# Altium footprint library BGA_Sq_100P.PcbLib: 114 footprints (part 12 of 31)
Each footprint in its own frame and in the unit in brackets; x right, y up, seen from the top. Pads: shape width x height; smd on the part's side, far side on the other; paste and mask are expansions set on the pad; w line width, h text height; cw(c..) or ccw(c..) is an arc to the next point about the centre after c.
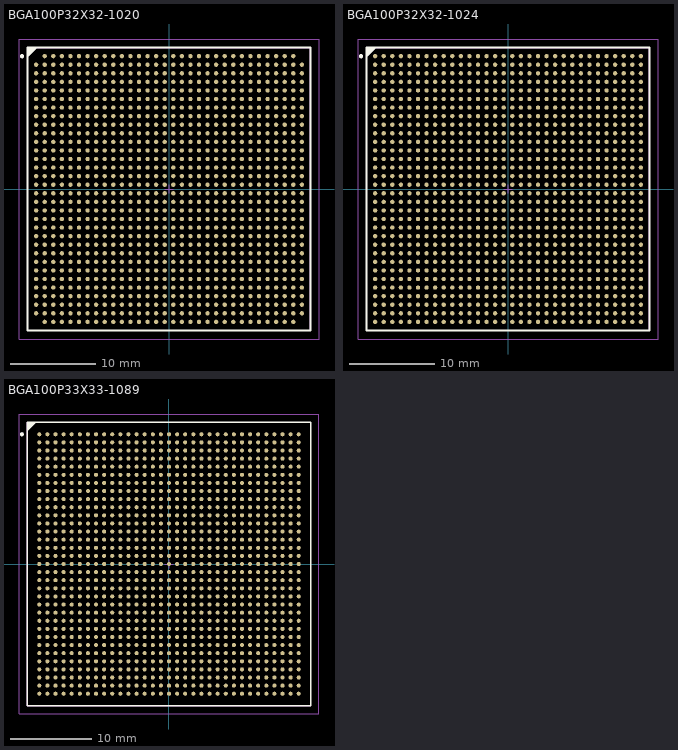
[diagram p11: the footprints below, top view; thin cyan lines are the x and y axes]

## BGA100P32X32-1020 [mm] "BGA, 1020-Leads, Body 33x33mm, Pitch 1mm"
height 3.5
pads (1020):
  round 0.5 smd: A2(-14.5,15.5) A3(-13.5,15.5) A4(-12.5,15.5) A5(-11.5,15.5) A6(-10.5,15.5) A7(-9.5,15.5) A8(-8.5,15.5) A9(-7.5,15.5) A10(-6.5,15.5) A11(-5.5,15.5) A12(-4.5,15.5) A13(-3.5,15.5) A14(-2.5,15.5) A15(-1.5,15.5) A16(-0.5,15.5) A17(0.5,15.5) A18(1.5,15.5) A19(2.5,15.5) A20(3.5,15.5) A21(4.5,15.5) A22(5.5,15.5) A23(6.5,15.5) A24(7.5,15.5) A25(8.5,15.5) A26(9.5,15.5) A27(10.5,15.5) A28(11.5,15.5) A29(12.5,15.5) A30(13.5,15.5) A31(14.5,15.5) AA1(-15.5,-4.5) AA2(-14.5,-4.5) AA3(-13.5,-4.5) AA4(-12.5,-4.5) AA5(-11.5,-4.5) AA6(-10.5,-4.5) AA7(-9.5,-4.5) AA8(-8.5,-4.5) AA9(-7.5,-4.5) AA10(-6.5,-4.5) AA11(-5.5,-4.5) AA12(-4.5,-4.5) AA13(-3.5,-4.5) AA14(-2.5,-4.5) AA15(-1.5,-4.5) AA16(-0.5,-4.5) AA17(0.5,-4.5) AA18(1.5,-4.5) AA19(2.5,-4.5) AA20(3.5,-4.5) AA21(4.5,-4.5) AA22(5.5,-4.5) AA23(6.5,-4.5) AA24(7.5,-4.5) AA25(8.5,-4.5) AA26(9.5,-4.5) AA27(10.5,-4.5) AA28(11.5,-4.5) AA29(12.5,-4.5) AA30(13.5,-4.5) AA31(14.5,-4.5) AA32(15.5,-4.5) AB1(-15.5,-5.5) AB2(-14.5,-5.5) AB3(-13.5,-5.5) AB4(-12.5,-5.5) AB5(-11.5,-5.5) AB6(-10.5,-5.5) AB7(-9.5,-5.5) AB8(-8.5,-5.5) AB9(-7.5,-5.5) AB10(-6.5,-5.5) AB11(-5.5,-5.5) AB12(-4.5,-5.5) AB13(-3.5,-5.5) AB14(-2.5,-5.5) AB15(-1.5,-5.5) AB16(-0.5,-5.5) AB17(0.5,-5.5) AB18(1.5,-5.5) AB19(2.5,-5.5) AB20(3.5,-5.5) AB21(4.5,-5.5) AB22(5.5,-5.5) AB23(6.5,-5.5) AB24(7.5,-5.5) AB25(8.5,-5.5) AB26(9.5,-5.5) AB27(10.5,-5.5) AB28(11.5,-5.5) AB29(12.5,-5.5) AB30(13.5,-5.5) AB31(14.5,-5.5) AB32(15.5,-5.5) AC1(-15.5,-6.5) AC2(-14.5,-6.5) AC3(-13.5,-6.5) AC4(-12.5,-6.5) AC5(-11.5,-6.5) AC6(-10.5,-6.5) AC7(-9.5,-6.5) AC8(-8.5,-6.5) AC9(-7.5,-6.5) AC10(-6.5,-6.5) AC11(-5.5,-6.5) AC12(-4.5,-6.5) AC13(-3.5,-6.5) AC14(-2.5,-6.5) AC15(-1.5,-6.5) AC16(-0.5,-6.5) AC17(0.5,-6.5) AC18(1.5,-6.5) AC19(2.5,-6.5) AC20(3.5,-6.5) AC21(4.5,-6.5) AC22(5.5,-6.5) AC23(6.5,-6.5) AC24(7.5,-6.5) AC25(8.5,-6.5) AC26(9.5,-6.5) AC27(10.5,-6.5) AC28(11.5,-6.5) AC29(12.5,-6.5) AC30(13.5,-6.5) AC31(14.5,-6.5) AC32(15.5,-6.5) AD1(-15.5,-7.5) AD2(-14.5,-7.5) AD3(-13.5,-7.5) AD4(-12.5,-7.5) AD5(-11.5,-7.5) AD6(-10.5,-7.5) AD7(-9.5,-7.5) AD8(-8.5,-7.5) AD9(-7.5,-7.5) AD10(-6.5,-7.5) AD11(-5.5,-7.5) AD12(-4.5,-7.5) AD13(-3.5,-7.5) AD14(-2.5,-7.5) AD15(-1.5,-7.5) AD16(-0.5,-7.5) AD17(0.5,-7.5) AD18(1.5,-7.5) AD19(2.5,-7.5) AD20(3.5,-7.5) AD21(4.5,-7.5) AD22(5.5,-7.5) AD23(6.5,-7.5) AD24(7.5,-7.5) AD25(8.5,-7.5) AD26(9.5,-7.5) AD27(10.5,-7.5) AD28(11.5,-7.5) AD29(12.5,-7.5) AD30(13.5,-7.5) AD31(14.5,-7.5) AD32(15.5,-7.5) AE1(-15.5,-8.5) AE2(-14.5,-8.5) AE3(-13.5,-8.5) AE4(-12.5,-8.5) AE5(-11.5,-8.5) AE6(-10.5,-8.5) AE7(-9.5,-8.5) AE8(-8.5,-8.5) AE9(-7.5,-8.5) AE10(-6.5,-8.5) AE11(-5.5,-8.5) AE12(-4.5,-8.5) AE13(-3.5,-8.5) AE14(-2.5,-8.5) AE15(-1.5,-8.5) AE16(-0.5,-8.5) AE17(0.5,-8.5) AE18(1.5,-8.5) AE19(2.5,-8.5) AE20(3.5,-8.5) AE21(4.5,-8.5) AE22(5.5,-8.5) AE23(6.5,-8.5) AE24(7.5,-8.5) AE25(8.5,-8.5) AE26(9.5,-8.5) AE27(10.5,-8.5) AE28(11.5,-8.5) AE29(12.5,-8.5) AE30(13.5,-8.5) AE31(14.5,-8.5) AE32(15.5,-8.5) AF1(-15.5,-9.5) AF2(-14.5,-9.5) AF3(-13.5,-9.5) AF4(-12.5,-9.5) AF5(-11.5,-9.5) AF6(-10.5,-9.5) AF7(-9.5,-9.5) AF8(-8.5,-9.5) AF9(-7.5,-9.5) AF10(-6.5,-9.5) AF11(-5.5,-9.5) AF12(-4.5,-9.5) AF13(-3.5,-9.5) AF14(-2.5,-9.5) AF15(-1.5,-9.5) AF16(-0.5,-9.5) AF17(0.5,-9.5) AF18(1.5,-9.5) AF19(2.5,-9.5) AF20(3.5,-9.5) AF21(4.5,-9.5) AF22(5.5,-9.5) AF23(6.5,-9.5) AF24(7.5,-9.5) AF25(8.5,-9.5) AF26(9.5,-9.5) AF27(10.5,-9.5) AF28(11.5,-9.5) AF29(12.5,-9.5) AF30(13.5,-9.5) AF31(14.5,-9.5) AF32(15.5,-9.5) AG1(-15.5,-10.5) AG2(-14.5,-10.5) AG3(-13.5,-10.5) AG4(-12.5,-10.5) AG5(-11.5,-10.5) AG6(-10.5,-10.5) AG7(-9.5,-10.5) AG8(-8.5,-10.5) AG9(-7.5,-10.5) AG10(-6.5,-10.5) AG11(-5.5,-10.5) AG12(-4.5,-10.5) AG13(-3.5,-10.5) AG14(-2.5,-10.5) AG15(-1.5,-10.5) AG16(-0.5,-10.5) AG17(0.5,-10.5) AG18(1.5,-10.5) AG19(2.5,-10.5) AG20(3.5,-10.5) AG21(4.5,-10.5) AG22(5.5,-10.5) AG23(6.5,-10.5) AG24(7.5,-10.5) AG25(8.5,-10.5) AG26(9.5,-10.5) AG27(10.5,-10.5) AG28(11.5,-10.5) AG29(12.5,-10.5) AG30(13.5,-10.5) AG31(14.5,-10.5) AG32(15.5,-10.5) AH1(-15.5,-11.5) AH2(-14.5,-11.5) AH3(-13.5,-11.5) AH4(-12.5,-11.5) AH5(-11.5,-11.5) AH6(-10.5,-11.5) AH7(-9.5,-11.5) AH8(-8.5,-11.5) AH9(-7.5,-11.5) AH10(-6.5,-11.5) AH11(-5.5,-11.5) AH12(-4.5,-11.5) AH13(-3.5,-11.5) AH14(-2.5,-11.5) AH15(-1.5,-11.5) AH16(-0.5,-11.5) AH17(0.5,-11.5) AH18(1.5,-11.5) AH19(2.5,-11.5) AH20(3.5,-11.5) AH21(4.5,-11.5) AH22(5.5,-11.5) AH23(6.5,-11.5) AH24(7.5,-11.5) AH25(8.5,-11.5) AH26(9.5,-11.5) AH27(10.5,-11.5) AH28(11.5,-11.5) AH29(12.5,-11.5) AH30(13.5,-11.5) AH31(14.5,-11.5) AH32(15.5,-11.5) AJ1(-15.5,-12.5) AJ2(-14.5,-12.5) AJ3(-13.5,-12.5) AJ4(-12.5,-12.5) AJ5(-11.5,-12.5) AJ6(-10.5,-12.5) AJ7(-9.5,-12.5) AJ8(-8.5,-12.5) AJ9(-7.5,-12.5) AJ10(-6.5,-12.5) AJ11(-5.5,-12.5) AJ12(-4.5,-12.5) AJ13(-3.5,-12.5) AJ14(-2.5,-12.5) AJ15(-1.5,-12.5) AJ16(-0.5,-12.5) AJ17(0.5,-12.5) AJ18(1.5,-12.5) AJ19(2.5,-12.5) AJ20(3.5,-12.5) AJ21(4.5,-12.5) AJ22(5.5,-12.5) AJ23(6.5,-12.5) AJ24(7.5,-12.5) AJ25(8.5,-12.5) AJ26(9.5,-12.5) AJ27(10.5,-12.5) AJ28(11.5,-12.5) AJ29(12.5,-12.5) AJ30(13.5,-12.5) AJ31(14.5,-12.5) AJ32(15.5,-12.5) AK1(-15.5,-13.5) AK2(-14.5,-13.5) AK3(-13.5,-13.5) AK4(-12.5,-13.5) AK5(-11.5,-13.5) AK6(-10.5,-13.5) AK7(-9.5,-13.5) AK8(-8.5,-13.5) AK9(-7.5,-13.5) AK10(-6.5,-13.5) AK11(-5.5,-13.5) AK12(-4.5,-13.5) AK13(-3.5,-13.5) AK14(-2.5,-13.5) AK15(-1.5,-13.5) AK16(-0.5,-13.5) AK17(0.5,-13.5) AK18(1.5,-13.5) AK19(2.5,-13.5) AK20(3.5,-13.5) AK21(4.5,-13.5) AK22(5.5,-13.5) AK23(6.5,-13.5) AK24(7.5,-13.5) AK25(8.5,-13.5) AK26(9.5,-13.5) AK27(10.5,-13.5) AK28(11.5,-13.5) AK29(12.5,-13.5) AK30(13.5,-13.5) AK31(14.5,-13.5) AK32(15.5,-13.5) AL1(-15.5,-14.5) AL2(-14.5,-14.5) AL3(-13.5,-14.5) AL4(-12.5,-14.5) AL5(-11.5,-14.5) AL6(-10.5,-14.5) AL7(-9.5,-14.5) AL8(-8.5,-14.5) AL9(-7.5,-14.5) AL10(-6.5,-14.5) AL11(-5.5,-14.5) AL12(-4.5,-14.5) AL13(-3.5,-14.5) AL14(-2.5,-14.5) AL15(-1.5,-14.5) AL16(-0.5,-14.5) AL17(0.5,-14.5) AL18(1.5,-14.5) AL19(2.5,-14.5) AL20(3.5,-14.5) AL21(4.5,-14.5) AL22(5.5,-14.5) AL23(6.5,-14.5) AL24(7.5,-14.5) AL25(8.5,-14.5) AL26(9.5,-14.5) AL27(10.5,-14.5) AL28(11.5,-14.5) AL29(12.5,-14.5) AL30(13.5,-14.5) AL31(14.5,-14.5) AL32(15.5,-14.5) AM2(-14.5,-15.5) AM3(-13.5,-15.5) AM4(-12.5,-15.5) AM5(-11.5,-15.5) AM6(-10.5,-15.5) AM7(-9.5,-15.5) AM8(-8.5,-15.5) AM9(-7.5,-15.5) AM10(-6.5,-15.5) AM11(-5.5,-15.5) AM12(-4.5,-15.5) AM13(-3.5,-15.5) AM14(-2.5,-15.5) AM15(-1.5,-15.5) AM16(-0.5,-15.5) AM17(0.5,-15.5) AM18(1.5,-15.5) AM19(2.5,-15.5) AM20(3.5,-15.5) AM21(4.5,-15.5) AM22(5.5,-15.5) AM23(6.5,-15.5) AM24(7.5,-15.5) AM25(8.5,-15.5) AM26(9.5,-15.5) AM27(10.5,-15.5) AM28(11.5,-15.5) AM29(12.5,-15.5) AM30(13.5,-15.5) AM31(14.5,-15.5) B1(-15.5,14.5) B2(-14.5,14.5) B3(-13.5,14.5) B4(-12.5,14.5) B5(-11.5,14.5) B6(-10.5,14.5) B7(-9.5,14.5) B8(-8.5,14.5) B9(-7.5,14.5) B10(-6.5,14.5) B11(-5.5,14.5) B12(-4.5,14.5) B13(-3.5,14.5) B14(-2.5,14.5) B15(-1.5,14.5) B16(-0.5,14.5) B17(0.5,14.5) B18(1.5,14.5) B19(2.5,14.5) B20(3.5,14.5) B21(4.5,14.5) B22(5.5,14.5) B23(6.5,14.5) B24(7.5,14.5) B25(8.5,14.5) B26(9.5,14.5) B27(10.5,14.5) B28(11.5,14.5) B29(12.5,14.5) B30(13.5,14.5) B31(14.5,14.5) B32(15.5,14.5) C1(-15.5,13.5) C2(-14.5,13.5) C3(-13.5,13.5) C4(-12.5,13.5) C5(-11.5,13.5) C6(-10.5,13.5) C7(-9.5,13.5) C8(-8.5,13.5) C9(-7.5,13.5) C10(-6.5,13.5) C11(-5.5,13.5) C12(-4.5,13.5) C13(-3.5,13.5) C14(-2.5,13.5) C15(-1.5,13.5) C16(-0.5,13.5) C17(0.5,13.5) C18(1.5,13.5) C19(2.5,13.5) C20(3.5,13.5) C21(4.5,13.5) C22(5.5,13.5) C23(6.5,13.5) C24(7.5,13.5) C25(8.5,13.5) C26(9.5,13.5) C27(10.5,13.5) C28(11.5,13.5) C29(12.5,13.5) C30(13.5,13.5) C31(14.5,13.5) C32(15.5,13.5) D1(-15.5,12.5) D2(-14.5,12.5) D3(-13.5,12.5) D4(-12.5,12.5) D5(-11.5,12.5) D6(-10.5,12.5) D7(-9.5,12.5) D8(-8.5,12.5) D9(-7.5,12.5) D10(-6.5,12.5) D11(-5.5,12.5) D12(-4.5,12.5) D13(-3.5,12.5) D14(-2.5,12.5) D15(-1.5,12.5) D16(-0.5,12.5) D17(0.5,12.5) D18(1.5,12.5) D19(2.5,12.5) D20(3.5,12.5) D21(4.5,12.5) D22(5.5,12.5) D23(6.5,12.5) D24(7.5,12.5) D25(8.5,12.5) D26(9.5,12.5) D27(10.5,12.5) D28(11.5,12.5) D29(12.5,12.5) D30(13.5,12.5) D31(14.5,12.5) D32(15.5,12.5) E1(-15.5,11.5) E2(-14.5,11.5) E3(-13.5,11.5) E4(-12.5,11.5) E5(-11.5,11.5) E6(-10.5,11.5) E7(-9.5,11.5) E8(-8.5,11.5) E9(-7.5,11.5) E10(-6.5,11.5) E11(-5.5,11.5) E12(-4.5,11.5) E13(-3.5,11.5) E14(-2.5,11.5) E15(-1.5,11.5) E16(-0.5,11.5) E17(0.5,11.5) E18(1.5,11.5) E19(2.5,11.5) E20(3.5,11.5) E21(4.5,11.5) E22(5.5,11.5) E23(6.5,11.5) E24(7.5,11.5) E25(8.5,11.5) E26(9.5,11.5) E27(10.5,11.5) E28(11.5,11.5) E29(12.5,11.5) E30(13.5,11.5) E31(14.5,11.5) E32(15.5,11.5) F1(-15.5,10.5) F2(-14.5,10.5) F3(-13.5,10.5) F4(-12.5,10.5) F5(-11.5,10.5) F6(-10.5,10.5) F7(-9.5,10.5) F8(-8.5,10.5) F9(-7.5,10.5) F10(-6.5,10.5) F11(-5.5,10.5) F12(-4.5,10.5) F13(-3.5,10.5) F14(-2.5,10.5) F15(-1.5,10.5) F16(-0.5,10.5) F17(0.5,10.5) F18(1.5,10.5) F19(2.5,10.5) F20(3.5,10.5) F21(4.5,10.5) F22(5.5,10.5) F23(6.5,10.5) F24(7.5,10.5) F25(8.5,10.5) F26(9.5,10.5) F27(10.5,10.5) F28(11.5,10.5) F29(12.5,10.5) F30(13.5,10.5) F31(14.5,10.5) F32(15.5,10.5) G1(-15.5,9.5) G2(-14.5,9.5) G3(-13.5,9.5) G4(-12.5,9.5) G5(-11.5,9.5) G6(-10.5,9.5) G7(-9.5,9.5) G8(-8.5,9.5) G9(-7.5,9.5) G10(-6.5,9.5) G11(-5.5,9.5) G12(-4.5,9.5) G13(-3.5,9.5) G14(-2.5,9.5) G15(-1.5,9.5) G16(-0.5,9.5) G17(0.5,9.5) G18(1.5,9.5) G19(2.5,9.5) G20(3.5,9.5) G21(4.5,9.5) G22(5.5,9.5) G23(6.5,9.5) G24(7.5,9.5) G25(8.5,9.5) G26(9.5,9.5) G27(10.5,9.5) G28(11.5,9.5) G29(12.5,9.5) G30(13.5,9.5) G31(14.5,9.5) G32(15.5,9.5) H1(-15.5,8.5) H2(-14.5,8.5) H3(-13.5,8.5) H4(-12.5,8.5) H5(-11.5,8.5) H6(-10.5,8.5) H7(-9.5,8.5) H8(-8.5,8.5) H9(-7.5,8.5) H10(-6.5,8.5) H11(-5.5,8.5) H12(-4.5,8.5) H13(-3.5,8.5) H14(-2.5,8.5) H15(-1.5,8.5) H16(-0.5,8.5) H17(0.5,8.5) H18(1.5,8.5) H19(2.5,8.5) H20(3.5,8.5) H21(4.5,8.5) H22(5.5,8.5) H23(6.5,8.5) H24(7.5,8.5) H25(8.5,8.5) H26(9.5,8.5) H27(10.5,8.5) H28(11.5,8.5) H29(12.5,8.5) H30(13.5,8.5) H31(14.5,8.5) H32(15.5,8.5) J1(-15.5,7.5) J2(-14.5,7.5) J3(-13.5,7.5) J4(-12.5,7.5) J5(-11.5,7.5) J6(-10.5,7.5) J7(-9.5,7.5) J8(-8.5,7.5) J9(-7.5,7.5) J10(-6.5,7.5) J11(-5.5,7.5) J12(-4.5,7.5) J13(-3.5,7.5) J14(-2.5,7.5) J15(-1.5,7.5) J16(-0.5,7.5) J17(0.5,7.5) J18(1.5,7.5) J19(2.5,7.5) J20(3.5,7.5) J21(4.5,7.5) J22(5.5,7.5) J23(6.5,7.5) J24(7.5,7.5) J25(8.5,7.5) J26(9.5,7.5) J27(10.5,7.5) J28(11.5,7.5) J29(12.5,7.5) J30(13.5,7.5) J31(14.5,7.5) J32(15.5,7.5) K1(-15.5,6.5) K2(-14.5,6.5) K3(-13.5,6.5) K4(-12.5,6.5) K5(-11.5,6.5) K6(-10.5,6.5) K7(-9.5,6.5) K8(-8.5,6.5) K9(-7.5,6.5) K10(-6.5,6.5) K11(-5.5,6.5) K12(-4.5,6.5) K13(-3.5,6.5) K14(-2.5,6.5) K15(-1.5,6.5) K16(-0.5,6.5) K17(0.5,6.5) K18(1.5,6.5) K19(2.5,6.5) K20(3.5,6.5) K21(4.5,6.5) K22(5.5,6.5) K23(6.5,6.5) K24(7.5,6.5) K25(8.5,6.5) K26(9.5,6.5) K27(10.5,6.5) K28(11.5,6.5) K29(12.5,6.5) K30(13.5,6.5) K31(14.5,6.5) K32(15.5,6.5) L1(-15.5,5.5) L2(-14.5,5.5) L3(-13.5,5.5) L4(-12.5,5.5) L5(-11.5,5.5) L6(-10.5,5.5) L7(-9.5,5.5) L8(-8.5,5.5) L9(-7.5,5.5) L10(-6.5,5.5) L11(-5.5,5.5) L12(-4.5,5.5) L13(-3.5,5.5) L14(-2.5,5.5) L15(-1.5,5.5) L16(-0.5,5.5) L17(0.5,5.5) L18(1.5,5.5) L19(2.5,5.5) L20(3.5,5.5) L21(4.5,5.5) L22(5.5,5.5) L23(6.5,5.5) L24(7.5,5.5) L25(8.5,5.5) L26(9.5,5.5) L27(10.5,5.5) L28(11.5,5.5) L29(12.5,5.5) L30(13.5,5.5) L31(14.5,5.5) L32(15.5,5.5) M1(-15.5,4.5) M2(-14.5,4.5) M3(-13.5,4.5) M4(-12.5,4.5) M5(-11.5,4.5) M6(-10.5,4.5) M7(-9.5,4.5) M8(-8.5,4.5) M9(-7.5,4.5) M10(-6.5,4.5) M11(-5.5,4.5) M12(-4.5,4.5) M13(-3.5,4.5) M14(-2.5,4.5) M15(-1.5,4.5) M16(-0.5,4.5) M17(0.5,4.5) M18(1.5,4.5) M19(2.5,4.5) M20(3.5,4.5) M21(4.5,4.5) M22(5.5,4.5) M23(6.5,4.5) M24(7.5,4.5) M25(8.5,4.5) M26(9.5,4.5) M27(10.5,4.5) M28(11.5,4.5) M29(12.5,4.5) M30(13.5,4.5) M31(14.5,4.5) M32(15.5,4.5) N1(-15.5,3.5) N2(-14.5,3.5) N3(-13.5,3.5) N4(-12.5,3.5) N5(-11.5,3.5) N6(-10.5,3.5) N7(-9.5,3.5) N8(-8.5,3.5) N9(-7.5,3.5) N10(-6.5,3.5) N11(-5.5,3.5) N12(-4.5,3.5) N13(-3.5,3.5) N14(-2.5,3.5) N15(-1.5,3.5) N16(-0.5,3.5) N17(0.5,3.5) N18(1.5,3.5) N19(2.5,3.5) N20(3.5,3.5) N21(4.5,3.5) N22(5.5,3.5) N23(6.5,3.5) N24(7.5,3.5) N25(8.5,3.5) N26(9.5,3.5) N27(10.5,3.5) N28(11.5,3.5) N29(12.5,3.5) N30(13.5,3.5) N31(14.5,3.5) N32(15.5,3.5) P1(-15.5,2.5) P2(-14.5,2.5) P3(-13.5,2.5) P4(-12.5,2.5) P5(-11.5,2.5) P6(-10.5,2.5) P7(-9.5,2.5) P8(-8.5,2.5) P9(-7.5,2.5) P10(-6.5,2.5) P11(-5.5,2.5) P12(-4.5,2.5) P13(-3.5,2.5) P14(-2.5,2.5) P15(-1.5,2.5) P16(-0.5,2.5) P17(0.5,2.5) P18(1.5,2.5) P19(2.5,2.5) P20(3.5,2.5) P21(4.5,2.5) P22(5.5,2.5) P23(6.5,2.5) P24(7.5,2.5) P25(8.5,2.5) P26(9.5,2.5) P27(10.5,2.5) P28(11.5,2.5) P29(12.5,2.5) P30(13.5,2.5) P31(14.5,2.5) P32(15.5,2.5) R1(-15.5,1.5) R2(-14.5,1.5) R3(-13.5,1.5) R4(-12.5,1.5) R5(-11.5,1.5) R6(-10.5,1.5) R7(-9.5,1.5) R8(-8.5,1.5) R9(-7.5,1.5) R10(-6.5,1.5) R11(-5.5,1.5) R12(-4.5,1.5) R13(-3.5,1.5) R14(-2.5,1.5) R15(-1.5,1.5) R16(-0.5,1.5) R17(0.5,1.5) R18(1.5,1.5) R19(2.5,1.5) R20(3.5,1.5) R21(4.5,1.5) R22(5.5,1.5) R23(6.5,1.5) R24(7.5,1.5) R25(8.5,1.5) R26(9.5,1.5) R27(10.5,1.5) R28(11.5,1.5) R29(12.5,1.5) R30(13.5,1.5) R31(14.5,1.5) R32(15.5,1.5) T1(-15.5,0.5) T2(-14.5,0.5) T3(-13.5,0.5) T4(-12.5,0.5) T5(-11.5,0.5) T6(-10.5,0.5) T7(-9.5,0.5) T8(-8.5,0.5) T9(-7.5,0.5) T10(-6.5,0.5) T11(-5.5,0.5) T12(-4.5,0.5) T13(-3.5,0.5) T14(-2.5,0.5) T15(-1.5,0.5) T16(-0.5,0.5) T17(0.5,0.5) T18(1.5,0.5) T19(2.5,0.5) T20(3.5,0.5) T21(4.5,0.5) T22(5.5,0.5) T23(6.5,0.5) T24(7.5,0.5) T25(8.5,0.5) T26(9.5,0.5) T27(10.5,0.5) T28(11.5,0.5) T29(12.5,0.5) T30(13.5,0.5) T31(14.5,0.5) T32(15.5,0.5) U1(-15.5,-0.5) U2(-14.5,-0.5) U3(-13.5,-0.5) U4(-12.5,-0.5) U5(-11.5,-0.5) U6(-10.5,-0.5) U7(-9.5,-0.5) U8(-8.5,-0.5) U9(-7.5,-0.5) U10(-6.5,-0.5) U11(-5.5,-0.5) U12(-4.5,-0.5) U13(-3.5,-0.5) U14(-2.5,-0.5) U15(-1.5,-0.5) U16(-0.5,-0.5) U17(0.5,-0.5) U18(1.5,-0.5) U19(2.5,-0.5) U20(3.5,-0.5) U21(4.5,-0.5) U22(5.5,-0.5) U23(6.5,-0.5) U24(7.5,-0.5) U25(8.5,-0.5) U26(9.5,-0.5) U27(10.5,-0.5) U28(11.5,-0.5) U29(12.5,-0.5) U30(13.5,-0.5) U31(14.5,-0.5) U32(15.5,-0.5) V1(-15.5,-1.5) V2(-14.5,-1.5) V3(-13.5,-1.5) V4(-12.5,-1.5) V5(-11.5,-1.5) V6(-10.5,-1.5) V7(-9.5,-1.5) V8(-8.5,-1.5) V9(-7.5,-1.5) V10(-6.5,-1.5) V11(-5.5,-1.5) V12(-4.5,-1.5) V13(-3.5,-1.5) V14(-2.5,-1.5) V15(-1.5,-1.5) V16(-0.5,-1.5) V17(0.5,-1.5) V18(1.5,-1.5) V19(2.5,-1.5) V20(3.5,-1.5) V21(4.5,-1.5) V22(5.5,-1.5) V23(6.5,-1.5) V24(7.5,-1.5) V25(8.5,-1.5) V26(9.5,-1.5) V27(10.5,-1.5) V28(11.5,-1.5) V29(12.5,-1.5) V30(13.5,-1.5) V31(14.5,-1.5) V32(15.5,-1.5) W1(-15.5,-2.5) W2(-14.5,-2.5) W3(-13.5,-2.5) W4(-12.5,-2.5) W5(-11.5,-2.5) W6(-10.5,-2.5) W7(-9.5,-2.5) W8(-8.5,-2.5) W9(-7.5,-2.5) W10(-6.5,-2.5) W11(-5.5,-2.5) W12(-4.5,-2.5) W13(-3.5,-2.5) W14(-2.5,-2.5) W15(-1.5,-2.5) W16(-0.5,-2.5) W17(0.5,-2.5) W18(1.5,-2.5) W19(2.5,-2.5) W20(3.5,-2.5) W21(4.5,-2.5) W22(5.5,-2.5) W23(6.5,-2.5) W24(7.5,-2.5) W25(8.5,-2.5) W26(9.5,-2.5) W27(10.5,-2.5) W28(11.5,-2.5) W29(12.5,-2.5) W30(13.5,-2.5) W31(14.5,-2.5) W32(15.5,-2.5) Y1(-15.5,-3.5) Y2(-14.5,-3.5) Y3(-13.5,-3.5) Y4(-12.5,-3.5) Y5(-11.5,-3.5) Y6(-10.5,-3.5) Y7(-9.5,-3.5) Y8(-8.5,-3.5) Y9(-7.5,-3.5) Y10(-6.5,-3.5) Y11(-5.5,-3.5) Y12(-4.5,-3.5) Y13(-3.5,-3.5) Y14(-2.5,-3.5) Y15(-1.5,-3.5) Y16(-0.5,-3.5) Y17(0.5,-3.5) Y18(1.5,-3.5) Y19(2.5,-3.5) Y20(3.5,-3.5) Y21(4.5,-3.5) Y22(5.5,-3.5) Y23(6.5,-3.5) Y24(7.5,-3.5) Y25(8.5,-3.5) Y26(9.5,-3.5) Y27(10.5,-3.5) Y28(11.5,-3.5) Y29(12.5,-3.5) Y30(13.5,-3.5) Y31(14.5,-3.5) Y32(15.5,-3.5)
Top Overlay:
  circle w0.25: c-17.15,15.5 r0.125
  region: -15.5,16.5 -16.5,15.5 -16.5,16.5
  lines w0.2: -16.5,15.5 -15.5,16.5 ; -16.5,-16.5 -16.5,16.5 16.5,16.5 16.5,-16.5 -16.5,-16.5
Mechanical 13:
  lines w0.1: -16.5,-16.5 -16.5,16.5 16.5,16.5 16.5,-16.5 -16.5,-16.5
Mechanical 15:
  lines w0.1: -0.5,0 0.5,0 ; 0,-0.5 0,0.5 ; -17.5,-17.5 -17.5,17.5 17.5,17.5 17.5,-17.5 -17.5,-17.5
3D body: height 0, standoff 0, extent -16.5,-16.5 16.5,16.5

## BGA100P32X32-1024 [mm] "BGA, 1024-Leads, Body 33x33mm, Pitch 1mm"
height 3.5
pads (1024):
  round 0.5 smd: A1(-15.5,15.5) A2(-14.5,15.5) A3(-13.5,15.5) A4(-12.5,15.5) A5(-11.5,15.5) A6(-10.5,15.5) A7(-9.5,15.5) A8(-8.5,15.5) A9(-7.5,15.5) A10(-6.5,15.5) A11(-5.5,15.5) A12(-4.5,15.5) A13(-3.5,15.5) A14(-2.5,15.5) A15(-1.5,15.5) A16(-0.5,15.5) A17(0.5,15.5) A18(1.5,15.5) A19(2.5,15.5) A20(3.5,15.5) A21(4.5,15.5) A22(5.5,15.5) A23(6.5,15.5) A24(7.5,15.5) A25(8.5,15.5) A26(9.5,15.5) A27(10.5,15.5) A28(11.5,15.5) A29(12.5,15.5) A30(13.5,15.5) A31(14.5,15.5) A32(15.5,15.5) AA1(-15.5,-4.5) AA2(-14.5,-4.5) AA3(-13.5,-4.5) AA4(-12.5,-4.5) AA5(-11.5,-4.5) AA6(-10.5,-4.5) AA7(-9.5,-4.5) AA8(-8.5,-4.5) AA9(-7.5,-4.5) AA10(-6.5,-4.5) AA11(-5.5,-4.5) AA12(-4.5,-4.5) AA13(-3.5,-4.5) AA14(-2.5,-4.5) AA15(-1.5,-4.5) AA16(-0.5,-4.5) AA17(0.5,-4.5) AA18(1.5,-4.5) AA19(2.5,-4.5) AA20(3.5,-4.5) AA21(4.5,-4.5) AA22(5.5,-4.5) AA23(6.5,-4.5) AA24(7.5,-4.5) AA25(8.5,-4.5) AA26(9.5,-4.5) AA27(10.5,-4.5) AA28(11.5,-4.5) AA29(12.5,-4.5) AA30(13.5,-4.5) AA31(14.5,-4.5) AA32(15.5,-4.5) AB1(-15.5,-5.5) AB2(-14.5,-5.5) AB3(-13.5,-5.5) AB4(-12.5,-5.5) AB5(-11.5,-5.5) AB6(-10.5,-5.5) AB7(-9.5,-5.5) AB8(-8.5,-5.5) AB9(-7.5,-5.5) AB10(-6.5,-5.5) AB11(-5.5,-5.5) AB12(-4.5,-5.5) AB13(-3.5,-5.5) AB14(-2.5,-5.5) AB15(-1.5,-5.5) AB16(-0.5,-5.5) AB17(0.5,-5.5) AB18(1.5,-5.5) AB19(2.5,-5.5) AB20(3.5,-5.5) AB21(4.5,-5.5) AB22(5.5,-5.5) AB23(6.5,-5.5) AB24(7.5,-5.5) AB25(8.5,-5.5) AB26(9.5,-5.5) AB27(10.5,-5.5) AB28(11.5,-5.5) AB29(12.5,-5.5) AB30(13.5,-5.5) AB31(14.5,-5.5) AB32(15.5,-5.5) AC1(-15.5,-6.5) AC2(-14.5,-6.5) AC3(-13.5,-6.5) AC4(-12.5,-6.5) AC5(-11.5,-6.5) AC6(-10.5,-6.5) AC7(-9.5,-6.5) AC8(-8.5,-6.5) AC9(-7.5,-6.5) AC10(-6.5,-6.5) AC11(-5.5,-6.5) AC12(-4.5,-6.5) AC13(-3.5,-6.5) AC14(-2.5,-6.5) AC15(-1.5,-6.5) AC16(-0.5,-6.5) AC17(0.5,-6.5) AC18(1.5,-6.5) AC19(2.5,-6.5) AC20(3.5,-6.5) AC21(4.5,-6.5) AC22(5.5,-6.5) AC23(6.5,-6.5) AC24(7.5,-6.5) AC25(8.5,-6.5) AC26(9.5,-6.5) AC27(10.5,-6.5) AC28(11.5,-6.5) AC29(12.5,-6.5) AC30(13.5,-6.5) AC31(14.5,-6.5) AC32(15.5,-6.5) AD1(-15.5,-7.5) AD2(-14.5,-7.5) AD3(-13.5,-7.5) AD4(-12.5,-7.5) AD5(-11.5,-7.5) AD6(-10.5,-7.5) AD7(-9.5,-7.5) AD8(-8.5,-7.5) AD9(-7.5,-7.5) AD10(-6.5,-7.5) AD11(-5.5,-7.5) AD12(-4.5,-7.5) AD13(-3.5,-7.5) AD14(-2.5,-7.5) AD15(-1.5,-7.5) AD16(-0.5,-7.5) AD17(0.5,-7.5) AD18(1.5,-7.5) AD19(2.5,-7.5) AD20(3.5,-7.5) AD21(4.5,-7.5) AD22(5.5,-7.5) AD23(6.5,-7.5) AD24(7.5,-7.5) AD25(8.5,-7.5) AD26(9.5,-7.5) AD27(10.5,-7.5) AD28(11.5,-7.5) AD29(12.5,-7.5) AD30(13.5,-7.5) AD31(14.5,-7.5) AD32(15.5,-7.5) AE1(-15.5,-8.5) AE2(-14.5,-8.5) AE3(-13.5,-8.5) AE4(-12.5,-8.5) AE5(-11.5,-8.5) AE6(-10.5,-8.5) AE7(-9.5,-8.5) AE8(-8.5,-8.5) AE9(-7.5,-8.5) AE10(-6.5,-8.5) AE11(-5.5,-8.5) AE12(-4.5,-8.5) AE13(-3.5,-8.5) AE14(-2.5,-8.5) AE15(-1.5,-8.5) AE16(-0.5,-8.5) AE17(0.5,-8.5) AE18(1.5,-8.5) AE19(2.5,-8.5) AE20(3.5,-8.5) AE21(4.5,-8.5) AE22(5.5,-8.5) AE23(6.5,-8.5) AE24(7.5,-8.5) AE25(8.5,-8.5) AE26(9.5,-8.5) AE27(10.5,-8.5) AE28(11.5,-8.5) AE29(12.5,-8.5) AE30(13.5,-8.5) AE31(14.5,-8.5) AE32(15.5,-8.5) AF1(-15.5,-9.5) AF2(-14.5,-9.5) AF3(-13.5,-9.5) AF4(-12.5,-9.5) AF5(-11.5,-9.5) AF6(-10.5,-9.5) AF7(-9.5,-9.5) AF8(-8.5,-9.5) AF9(-7.5,-9.5) AF10(-6.5,-9.5) AF11(-5.5,-9.5) AF12(-4.5,-9.5) AF13(-3.5,-9.5) AF14(-2.5,-9.5) AF15(-1.5,-9.5) AF16(-0.5,-9.5) AF17(0.5,-9.5) AF18(1.5,-9.5) AF19(2.5,-9.5) AF20(3.5,-9.5) AF21(4.5,-9.5) AF22(5.5,-9.5) AF23(6.5,-9.5) AF24(7.5,-9.5) AF25(8.5,-9.5) AF26(9.5,-9.5) AF27(10.5,-9.5) AF28(11.5,-9.5) AF29(12.5,-9.5) AF30(13.5,-9.5) AF31(14.5,-9.5) AF32(15.5,-9.5) AG1(-15.5,-10.5) AG2(-14.5,-10.5) AG3(-13.5,-10.5) AG4(-12.5,-10.5) AG5(-11.5,-10.5) AG6(-10.5,-10.5) AG7(-9.5,-10.5) AG8(-8.5,-10.5) AG9(-7.5,-10.5) AG10(-6.5,-10.5) AG11(-5.5,-10.5) AG12(-4.5,-10.5) AG13(-3.5,-10.5) AG14(-2.5,-10.5) AG15(-1.5,-10.5) AG16(-0.5,-10.5) AG17(0.5,-10.5) AG18(1.5,-10.5) AG19(2.5,-10.5) AG20(3.5,-10.5) AG21(4.5,-10.5) AG22(5.5,-10.5) AG23(6.5,-10.5) AG24(7.5,-10.5) AG25(8.5,-10.5) AG26(9.5,-10.5) AG27(10.5,-10.5) AG28(11.5,-10.5) AG29(12.5,-10.5) AG30(13.5,-10.5) AG31(14.5,-10.5) AG32(15.5,-10.5) AH1(-15.5,-11.5) AH2(-14.5,-11.5) AH3(-13.5,-11.5) AH4(-12.5,-11.5) AH5(-11.5,-11.5) AH6(-10.5,-11.5) AH7(-9.5,-11.5) AH8(-8.5,-11.5) AH9(-7.5,-11.5) AH10(-6.5,-11.5) AH11(-5.5,-11.5) AH12(-4.5,-11.5) AH13(-3.5,-11.5) AH14(-2.5,-11.5) AH15(-1.5,-11.5) AH16(-0.5,-11.5) AH17(0.5,-11.5) AH18(1.5,-11.5) AH19(2.5,-11.5) AH20(3.5,-11.5) AH21(4.5,-11.5) AH22(5.5,-11.5) AH23(6.5,-11.5) AH24(7.5,-11.5) AH25(8.5,-11.5) AH26(9.5,-11.5) AH27(10.5,-11.5) AH28(11.5,-11.5) AH29(12.5,-11.5) AH30(13.5,-11.5) AH31(14.5,-11.5) AH32(15.5,-11.5) AJ1(-15.5,-12.5) AJ2(-14.5,-12.5) AJ3(-13.5,-12.5) AJ4(-12.5,-12.5) AJ5(-11.5,-12.5) AJ6(-10.5,-12.5) AJ7(-9.5,-12.5) AJ8(-8.5,-12.5) AJ9(-7.5,-12.5) AJ10(-6.5,-12.5) AJ11(-5.5,-12.5) AJ12(-4.5,-12.5) AJ13(-3.5,-12.5) AJ14(-2.5,-12.5) AJ15(-1.5,-12.5) AJ16(-0.5,-12.5) AJ17(0.5,-12.5) AJ18(1.5,-12.5) AJ19(2.5,-12.5) AJ20(3.5,-12.5) AJ21(4.5,-12.5) AJ22(5.5,-12.5) AJ23(6.5,-12.5) AJ24(7.5,-12.5) AJ25(8.5,-12.5) AJ26(9.5,-12.5) AJ27(10.5,-12.5) AJ28(11.5,-12.5) AJ29(12.5,-12.5) AJ30(13.5,-12.5) AJ31(14.5,-12.5) AJ32(15.5,-12.5) AK1(-15.5,-13.5) AK2(-14.5,-13.5) AK3(-13.5,-13.5) AK4(-12.5,-13.5) AK5(-11.5,-13.5) AK6(-10.5,-13.5) AK7(-9.5,-13.5) AK8(-8.5,-13.5) AK9(-7.5,-13.5) AK10(-6.5,-13.5) AK11(-5.5,-13.5) AK12(-4.5,-13.5) AK13(-3.5,-13.5) AK14(-2.5,-13.5) AK15(-1.5,-13.5) AK16(-0.5,-13.5) AK17(0.5,-13.5) AK18(1.5,-13.5) AK19(2.5,-13.5) AK20(3.5,-13.5) AK21(4.5,-13.5) AK22(5.5,-13.5) AK23(6.5,-13.5) AK24(7.5,-13.5) AK25(8.5,-13.5) AK26(9.5,-13.5) AK27(10.5,-13.5) AK28(11.5,-13.5) AK29(12.5,-13.5) AK30(13.5,-13.5) AK31(14.5,-13.5) AK32(15.5,-13.5) AL1(-15.5,-14.5) AL2(-14.5,-14.5) AL3(-13.5,-14.5) AL4(-12.5,-14.5) AL5(-11.5,-14.5) AL6(-10.5,-14.5) AL7(-9.5,-14.5) AL8(-8.5,-14.5) AL9(-7.5,-14.5) AL10(-6.5,-14.5) AL11(-5.5,-14.5) AL12(-4.5,-14.5) AL13(-3.5,-14.5) AL14(-2.5,-14.5) AL15(-1.5,-14.5) AL16(-0.5,-14.5) AL17(0.5,-14.5) AL18(1.5,-14.5) AL19(2.5,-14.5) AL20(3.5,-14.5) AL21(4.5,-14.5) AL22(5.5,-14.5) AL23(6.5,-14.5) AL24(7.5,-14.5) AL25(8.5,-14.5) AL26(9.5,-14.5) AL27(10.5,-14.5) AL28(11.5,-14.5) AL29(12.5,-14.5) AL30(13.5,-14.5) AL31(14.5,-14.5) AL32(15.5,-14.5) AM1(-15.5,-15.5) AM2(-14.5,-15.5) AM3(-13.5,-15.5) AM4(-12.5,-15.5) AM5(-11.5,-15.5) AM6(-10.5,-15.5) AM7(-9.5,-15.5) AM8(-8.5,-15.5) AM9(-7.5,-15.5) AM10(-6.5,-15.5) AM11(-5.5,-15.5) AM12(-4.5,-15.5) AM13(-3.5,-15.5) AM14(-2.5,-15.5) AM15(-1.5,-15.5) AM16(-0.5,-15.5) AM17(0.5,-15.5) AM18(1.5,-15.5) AM19(2.5,-15.5) AM20(3.5,-15.5) AM21(4.5,-15.5) AM22(5.5,-15.5) AM23(6.5,-15.5) AM24(7.5,-15.5) AM25(8.5,-15.5) AM26(9.5,-15.5) AM27(10.5,-15.5) AM28(11.5,-15.5) AM29(12.5,-15.5) AM30(13.5,-15.5) AM31(14.5,-15.5) AM32(15.5,-15.5) B1(-15.5,14.5) B2(-14.5,14.5) B3(-13.5,14.5) B4(-12.5,14.5) B5(-11.5,14.5) B6(-10.5,14.5) B7(-9.5,14.5) B8(-8.5,14.5) B9(-7.5,14.5) B10(-6.5,14.5) B11(-5.5,14.5) B12(-4.5,14.5) B13(-3.5,14.5) B14(-2.5,14.5) B15(-1.5,14.5) B16(-0.5,14.5) B17(0.5,14.5) B18(1.5,14.5) B19(2.5,14.5) B20(3.5,14.5) B21(4.5,14.5) B22(5.5,14.5) B23(6.5,14.5) B24(7.5,14.5) B25(8.5,14.5) B26(9.5,14.5) B27(10.5,14.5) B28(11.5,14.5) B29(12.5,14.5) B30(13.5,14.5) B31(14.5,14.5) B32(15.5,14.5) C1(-15.5,13.5) C2(-14.5,13.5) C3(-13.5,13.5) C4(-12.5,13.5) C5(-11.5,13.5) C6(-10.5,13.5) C7(-9.5,13.5) C8(-8.5,13.5) C9(-7.5,13.5) C10(-6.5,13.5) C11(-5.5,13.5) C12(-4.5,13.5) C13(-3.5,13.5) C14(-2.5,13.5) C15(-1.5,13.5) C16(-0.5,13.5) C17(0.5,13.5) C18(1.5,13.5) C19(2.5,13.5) C20(3.5,13.5) C21(4.5,13.5) C22(5.5,13.5) C23(6.5,13.5) C24(7.5,13.5) C25(8.5,13.5) C26(9.5,13.5) C27(10.5,13.5) C28(11.5,13.5) C29(12.5,13.5) C30(13.5,13.5) C31(14.5,13.5) C32(15.5,13.5) D1(-15.5,12.5) D2(-14.5,12.5) D3(-13.5,12.5) D4(-12.5,12.5) D5(-11.5,12.5) D6(-10.5,12.5) D7(-9.5,12.5) D8(-8.5,12.5) D9(-7.5,12.5) D10(-6.5,12.5) D11(-5.5,12.5) D12(-4.5,12.5) D13(-3.5,12.5) D14(-2.5,12.5) D15(-1.5,12.5) D16(-0.5,12.5) D17(0.5,12.5) D18(1.5,12.5) D19(2.5,12.5) D20(3.5,12.5) D21(4.5,12.5) D22(5.5,12.5) D23(6.5,12.5) D24(7.5,12.5) D25(8.5,12.5) D26(9.5,12.5) D27(10.5,12.5) D28(11.5,12.5) D29(12.5,12.5) D30(13.5,12.5) D31(14.5,12.5) D32(15.5,12.5) E1(-15.5,11.5) E2(-14.5,11.5) E3(-13.5,11.5) E4(-12.5,11.5) E5(-11.5,11.5) E6(-10.5,11.5) E7(-9.5,11.5) E8(-8.5,11.5) E9(-7.5,11.5) E10(-6.5,11.5) E11(-5.5,11.5) E12(-4.5,11.5) E13(-3.5,11.5) E14(-2.5,11.5) E15(-1.5,11.5) E16(-0.5,11.5) E17(0.5,11.5) E18(1.5,11.5) E19(2.5,11.5) E20(3.5,11.5) E21(4.5,11.5) E22(5.5,11.5) E23(6.5,11.5) E24(7.5,11.5) E25(8.5,11.5) E26(9.5,11.5) E27(10.5,11.5) E28(11.5,11.5) E29(12.5,11.5) E30(13.5,11.5) E31(14.5,11.5) E32(15.5,11.5) F1(-15.5,10.5) F2(-14.5,10.5) F3(-13.5,10.5) F4(-12.5,10.5) F5(-11.5,10.5) F6(-10.5,10.5) F7(-9.5,10.5) F8(-8.5,10.5) F9(-7.5,10.5) F10(-6.5,10.5) F11(-5.5,10.5) F12(-4.5,10.5) F13(-3.5,10.5) F14(-2.5,10.5) F15(-1.5,10.5) F16(-0.5,10.5) F17(0.5,10.5) F18(1.5,10.5) F19(2.5,10.5) F20(3.5,10.5) F21(4.5,10.5) F22(5.5,10.5) F23(6.5,10.5) F24(7.5,10.5) F25(8.5,10.5) F26(9.5,10.5) F27(10.5,10.5) F28(11.5,10.5) F29(12.5,10.5) F30(13.5,10.5) F31(14.5,10.5) F32(15.5,10.5) G1(-15.5,9.5) G2(-14.5,9.5) G3(-13.5,9.5) G4(-12.5,9.5) G5(-11.5,9.5) G6(-10.5,9.5) G7(-9.5,9.5) G8(-8.5,9.5) G9(-7.5,9.5) G10(-6.5,9.5) G11(-5.5,9.5) G12(-4.5,9.5) G13(-3.5,9.5) G14(-2.5,9.5) G15(-1.5,9.5) G16(-0.5,9.5) G17(0.5,9.5) G18(1.5,9.5) G19(2.5,9.5) G20(3.5,9.5) G21(4.5,9.5) G22(5.5,9.5) G23(6.5,9.5) G24(7.5,9.5) G25(8.5,9.5) G26(9.5,9.5) G27(10.5,9.5) G28(11.5,9.5) G29(12.5,9.5) G30(13.5,9.5) G31(14.5,9.5) G32(15.5,9.5) H1(-15.5,8.5) H2(-14.5,8.5) H3(-13.5,8.5) H4(-12.5,8.5) H5(-11.5,8.5) H6(-10.5,8.5) H7(-9.5,8.5) H8(-8.5,8.5) H9(-7.5,8.5) H10(-6.5,8.5) H11(-5.5,8.5) H12(-4.5,8.5) H13(-3.5,8.5) H14(-2.5,8.5) H15(-1.5,8.5) H16(-0.5,8.5) H17(0.5,8.5) H18(1.5,8.5) H19(2.5,8.5) H20(3.5,8.5) H21(4.5,8.5) H22(5.5,8.5) H23(6.5,8.5) H24(7.5,8.5) H25(8.5,8.5) H26(9.5,8.5) H27(10.5,8.5) H28(11.5,8.5) H29(12.5,8.5) H30(13.5,8.5) H31(14.5,8.5) H32(15.5,8.5) J1(-15.5,7.5) J2(-14.5,7.5) J3(-13.5,7.5) J4(-12.5,7.5) J5(-11.5,7.5) J6(-10.5,7.5) J7(-9.5,7.5) J8(-8.5,7.5) J9(-7.5,7.5) J10(-6.5,7.5) J11(-5.5,7.5) J12(-4.5,7.5) J13(-3.5,7.5) J14(-2.5,7.5) J15(-1.5,7.5) J16(-0.5,7.5) J17(0.5,7.5) J18(1.5,7.5) J19(2.5,7.5) J20(3.5,7.5) J21(4.5,7.5) J22(5.5,7.5) J23(6.5,7.5) J24(7.5,7.5) J25(8.5,7.5) J26(9.5,7.5) J27(10.5,7.5) J28(11.5,7.5) J29(12.5,7.5) J30(13.5,7.5) J31(14.5,7.5) J32(15.5,7.5) K1(-15.5,6.5) K2(-14.5,6.5) K3(-13.5,6.5) K4(-12.5,6.5) K5(-11.5,6.5) K6(-10.5,6.5) K7(-9.5,6.5) K8(-8.5,6.5) K9(-7.5,6.5) K10(-6.5,6.5) K11(-5.5,6.5) K12(-4.5,6.5) K13(-3.5,6.5) K14(-2.5,6.5) K15(-1.5,6.5) K16(-0.5,6.5) K17(0.5,6.5) K18(1.5,6.5) K19(2.5,6.5) K20(3.5,6.5) K21(4.5,6.5) K22(5.5,6.5) K23(6.5,6.5) K24(7.5,6.5) K25(8.5,6.5) K26(9.5,6.5) K27(10.5,6.5) K28(11.5,6.5) K29(12.5,6.5) K30(13.5,6.5) K31(14.5,6.5) K32(15.5,6.5) L1(-15.5,5.5) L2(-14.5,5.5) L3(-13.5,5.5) L4(-12.5,5.5) L5(-11.5,5.5) L6(-10.5,5.5) L7(-9.5,5.5) L8(-8.5,5.5) L9(-7.5,5.5) L10(-6.5,5.5) L11(-5.5,5.5) L12(-4.5,5.5) L13(-3.5,5.5) L14(-2.5,5.5) L15(-1.5,5.5) L16(-0.5,5.5) L17(0.5,5.5) L18(1.5,5.5) L19(2.5,5.5) L20(3.5,5.5) L21(4.5,5.5) L22(5.5,5.5) L23(6.5,5.5) L24(7.5,5.5) L25(8.5,5.5) L26(9.5,5.5) L27(10.5,5.5) L28(11.5,5.5) L29(12.5,5.5) L30(13.5,5.5) L31(14.5,5.5) L32(15.5,5.5) M1(-15.5,4.5) M2(-14.5,4.5) M3(-13.5,4.5) M4(-12.5,4.5) M5(-11.5,4.5) M6(-10.5,4.5) M7(-9.5,4.5) M8(-8.5,4.5) M9(-7.5,4.5) M10(-6.5,4.5) M11(-5.5,4.5) M12(-4.5,4.5) M13(-3.5,4.5) M14(-2.5,4.5) M15(-1.5,4.5) M16(-0.5,4.5) M17(0.5,4.5) M18(1.5,4.5) M19(2.5,4.5) M20(3.5,4.5) M21(4.5,4.5) M22(5.5,4.5) M23(6.5,4.5) M24(7.5,4.5) M25(8.5,4.5) M26(9.5,4.5) M27(10.5,4.5) M28(11.5,4.5) M29(12.5,4.5) M30(13.5,4.5) M31(14.5,4.5) M32(15.5,4.5) N1(-15.5,3.5) N2(-14.5,3.5) N3(-13.5,3.5) N4(-12.5,3.5) N5(-11.5,3.5) N6(-10.5,3.5) N7(-9.5,3.5) N8(-8.5,3.5) N9(-7.5,3.5) N10(-6.5,3.5) N11(-5.5,3.5) N12(-4.5,3.5) N13(-3.5,3.5) N14(-2.5,3.5) N15(-1.5,3.5) N16(-0.5,3.5) N17(0.5,3.5) N18(1.5,3.5) N19(2.5,3.5) N20(3.5,3.5) N21(4.5,3.5) N22(5.5,3.5) N23(6.5,3.5) N24(7.5,3.5) N25(8.5,3.5) N26(9.5,3.5) N27(10.5,3.5) N28(11.5,3.5) N29(12.5,3.5) N30(13.5,3.5) N31(14.5,3.5) N32(15.5,3.5) P1(-15.5,2.5) P2(-14.5,2.5) P3(-13.5,2.5) P4(-12.5,2.5) P5(-11.5,2.5) P6(-10.5,2.5) P7(-9.5,2.5) P8(-8.5,2.5) P9(-7.5,2.5) P10(-6.5,2.5) P11(-5.5,2.5) P12(-4.5,2.5) P13(-3.5,2.5) P14(-2.5,2.5) P15(-1.5,2.5) P16(-0.5,2.5) P17(0.5,2.5) P18(1.5,2.5) P19(2.5,2.5) P20(3.5,2.5) P21(4.5,2.5) P22(5.5,2.5) P23(6.5,2.5) P24(7.5,2.5) P25(8.5,2.5) P26(9.5,2.5) P27(10.5,2.5) P28(11.5,2.5) P29(12.5,2.5) P30(13.5,2.5) P31(14.5,2.5) P32(15.5,2.5) R1(-15.5,1.5) R2(-14.5,1.5) R3(-13.5,1.5) R4(-12.5,1.5) R5(-11.5,1.5) R6(-10.5,1.5) R7(-9.5,1.5) R8(-8.5,1.5) R9(-7.5,1.5) R10(-6.5,1.5) R11(-5.5,1.5) R12(-4.5,1.5) R13(-3.5,1.5) R14(-2.5,1.5) R15(-1.5,1.5) R16(-0.5,1.5) R17(0.5,1.5) R18(1.5,1.5) R19(2.5,1.5) R20(3.5,1.5) R21(4.5,1.5) R22(5.5,1.5) R23(6.5,1.5) R24(7.5,1.5) R25(8.5,1.5) R26(9.5,1.5) R27(10.5,1.5) R28(11.5,1.5) R29(12.5,1.5) R30(13.5,1.5) R31(14.5,1.5) R32(15.5,1.5) T1(-15.5,0.5) T2(-14.5,0.5) T3(-13.5,0.5) T4(-12.5,0.5) T5(-11.5,0.5) T6(-10.5,0.5) T7(-9.5,0.5) T8(-8.5,0.5) T9(-7.5,0.5) T10(-6.5,0.5) T11(-5.5,0.5) T12(-4.5,0.5) T13(-3.5,0.5) T14(-2.5,0.5) T15(-1.5,0.5) T16(-0.5,0.5) T17(0.5,0.5) T18(1.5,0.5) T19(2.5,0.5) T20(3.5,0.5) T21(4.5,0.5) T22(5.5,0.5) T23(6.5,0.5) T24(7.5,0.5) T25(8.5,0.5) T26(9.5,0.5) T27(10.5,0.5) T28(11.5,0.5) T29(12.5,0.5) T30(13.5,0.5) T31(14.5,0.5) T32(15.5,0.5) U1(-15.5,-0.5) U2(-14.5,-0.5) U3(-13.5,-0.5) U4(-12.5,-0.5) U5(-11.5,-0.5) U6(-10.5,-0.5) U7(-9.5,-0.5) U8(-8.5,-0.5) U9(-7.5,-0.5) U10(-6.5,-0.5) U11(-5.5,-0.5) U12(-4.5,-0.5) U13(-3.5,-0.5) U14(-2.5,-0.5) U15(-1.5,-0.5) U16(-0.5,-0.5) U17(0.5,-0.5) U18(1.5,-0.5) U19(2.5,-0.5) U20(3.5,-0.5) U21(4.5,-0.5) U22(5.5,-0.5) U23(6.5,-0.5) U24(7.5,-0.5) U25(8.5,-0.5) U26(9.5,-0.5) U27(10.5,-0.5) U28(11.5,-0.5) U29(12.5,-0.5) U30(13.5,-0.5) U31(14.5,-0.5) U32(15.5,-0.5) V1(-15.5,-1.5) V2(-14.5,-1.5) V3(-13.5,-1.5) V4(-12.5,-1.5) V5(-11.5,-1.5) V6(-10.5,-1.5) V7(-9.5,-1.5) V8(-8.5,-1.5) V9(-7.5,-1.5) V10(-6.5,-1.5) V11(-5.5,-1.5) V12(-4.5,-1.5) V13(-3.5,-1.5) V14(-2.5,-1.5) V15(-1.5,-1.5) V16(-0.5,-1.5) V17(0.5,-1.5) V18(1.5,-1.5) V19(2.5,-1.5) V20(3.5,-1.5) V21(4.5,-1.5) V22(5.5,-1.5) V23(6.5,-1.5) V24(7.5,-1.5) V25(8.5,-1.5) V26(9.5,-1.5) V27(10.5,-1.5) V28(11.5,-1.5) V29(12.5,-1.5) V30(13.5,-1.5) V31(14.5,-1.5) V32(15.5,-1.5) W1(-15.5,-2.5) W2(-14.5,-2.5) W3(-13.5,-2.5) W4(-12.5,-2.5) W5(-11.5,-2.5) W6(-10.5,-2.5) W7(-9.5,-2.5) W8(-8.5,-2.5) W9(-7.5,-2.5) W10(-6.5,-2.5) W11(-5.5,-2.5) W12(-4.5,-2.5) W13(-3.5,-2.5) W14(-2.5,-2.5) W15(-1.5,-2.5) W16(-0.5,-2.5) W17(0.5,-2.5) W18(1.5,-2.5) W19(2.5,-2.5) W20(3.5,-2.5) W21(4.5,-2.5) W22(5.5,-2.5) W23(6.5,-2.5) W24(7.5,-2.5) W25(8.5,-2.5) W26(9.5,-2.5) W27(10.5,-2.5) W28(11.5,-2.5) W29(12.5,-2.5) W30(13.5,-2.5) W31(14.5,-2.5) W32(15.5,-2.5) Y1(-15.5,-3.5) Y2(-14.5,-3.5) Y3(-13.5,-3.5) Y4(-12.5,-3.5) Y5(-11.5,-3.5) Y6(-10.5,-3.5) Y7(-9.5,-3.5) Y8(-8.5,-3.5) Y9(-7.5,-3.5) Y10(-6.5,-3.5) Y11(-5.5,-3.5) Y12(-4.5,-3.5) Y13(-3.5,-3.5) Y14(-2.5,-3.5) Y15(-1.5,-3.5) Y16(-0.5,-3.5) Y17(0.5,-3.5) Y18(1.5,-3.5) Y19(2.5,-3.5) Y20(3.5,-3.5) Y21(4.5,-3.5) Y22(5.5,-3.5) Y23(6.5,-3.5) Y24(7.5,-3.5) Y25(8.5,-3.5) Y26(9.5,-3.5) Y27(10.5,-3.5) Y28(11.5,-3.5) Y29(12.5,-3.5) Y30(13.5,-3.5) Y31(14.5,-3.5) Y32(15.5,-3.5)
Top Overlay:
  circle w0.25: c-17.15,15.5 r0.125
  region: -15.5,16.5 -16.5,15.5 -16.5,16.5
  lines w0.2: -16.5,15.5 -15.5,16.5 ; -16.5,-16.5 -16.5,16.5 16.5,16.5 16.5,-16.5 -16.5,-16.5
Mechanical 13:
  lines w0.1: -16.5,-16.5 -16.5,16.5 16.5,16.5 16.5,-16.5 -16.5,-16.5
Mechanical 15:
  lines w0.1: -0.5,0 0.5,0 ; 0,-0.5 0,0.5 ; -17.5,-17.5 -17.5,17.5 17.5,17.5 17.5,-17.5 -17.5,-17.5
3D body: height 0, standoff 0, extent -16.5,-16.5 16.5,16.5

## BGA100P33X33-1089 [mm] "BGA, 1089-Leads, Body 35x35mm, Pitch 1mm"
height 3.5
pads (1089):
  round 0.5 smd: A1(-16,16) A2(-15,16) A3(-14,16) A4(-13,16) A5(-12,16) A6(-11,16) A7(-10,16) A8(-9,16) A9(-8,16) A10(-7,16) A11(-6,16) A12(-5,16) A13(-4,16) A14(-3,16) A15(-2,16) A16(-1,16) A17(0,16) A18(1,16) A19(2,16) A20(3,16) A21(4,16) A22(5,16) A23(6,16) A24(7,16) A25(8,16) A26(9,16) A27(10,16) A28(11,16) A29(12,16) A30(13,16) A31(14,16) A32(15,16) A33(16,16) AA1(-16,-4) AA2(-15,-4) AA3(-14,-4) AA4(-13,-4) AA5(-12,-4) AA6(-11,-4) AA7(-10,-4) AA8(-9,-4) AA9(-8,-4) AA10(-7,-4) AA11(-6,-4) AA12(-5,-4) AA13(-4,-4) AA14(-3,-4) AA15(-2,-4) AA16(-1,-4) AA17(0,-4) AA18(1,-4) AA19(2,-4) AA20(3,-4) AA21(4,-4) AA22(5,-4) AA23(6,-4) AA24(7,-4) AA25(8,-4) AA26(9,-4) AA27(10,-4) AA28(11,-4) AA29(12,-4) AA30(13,-4) AA31(14,-4) AA32(15,-4) AA33(16,-4) AB1(-16,-5) AB2(-15,-5) AB3(-14,-5) AB4(-13,-5) AB5(-12,-5) AB6(-11,-5) AB7(-10,-5) AB8(-9,-5) AB9(-8,-5) AB10(-7,-5) AB11(-6,-5) AB12(-5,-5) AB13(-4,-5) AB14(-3,-5) AB15(-2,-5) AB16(-1,-5) AB17(0,-5) AB18(1,-5) AB19(2,-5) AB20(3,-5) AB21(4,-5) AB22(5,-5) AB23(6,-5) AB24(7,-5) AB25(8,-5) AB26(9,-5) AB27(10,-5) AB28(11,-5) AB29(12,-5) AB30(13,-5) AB31(14,-5) AB32(15,-5) AB33(16,-5) AC1(-16,-6) AC2(-15,-6) AC3(-14,-6) AC4(-13,-6) AC5(-12,-6) AC6(-11,-6) AC7(-10,-6) AC8(-9,-6) AC9(-8,-6) AC10(-7,-6) AC11(-6,-6) AC12(-5,-6) AC13(-4,-6) AC14(-3,-6) AC15(-2,-6) AC16(-1,-6) AC17(0,-6) AC18(1,-6) AC19(2,-6) AC20(3,-6) AC21(4,-6) AC22(5,-6) AC23(6,-6) AC24(7,-6) AC25(8,-6) AC26(9,-6) AC27(10,-6) AC28(11,-6) AC29(12,-6) AC30(13,-6) AC31(14,-6) AC32(15,-6) AC33(16,-6) AD1(-16,-7) AD2(-15,-7) AD3(-14,-7) AD4(-13,-7) AD5(-12,-7) AD6(-11,-7) AD7(-10,-7) AD8(-9,-7) AD9(-8,-7) AD10(-7,-7) AD11(-6,-7) AD12(-5,-7) AD13(-4,-7) AD14(-3,-7) AD15(-2,-7) AD16(-1,-7) AD17(0,-7) AD18(1,-7) AD19(2,-7) AD20(3,-7) AD21(4,-7) AD22(5,-7) AD23(6,-7) AD24(7,-7) AD25(8,-7) AD26(9,-7) AD27(10,-7) AD28(11,-7) AD29(12,-7) AD30(13,-7) AD31(14,-7) AD32(15,-7) AD33(16,-7) AE1(-16,-8) AE2(-15,-8) AE3(-14,-8) AE4(-13,-8) AE5(-12,-8) AE6(-11,-8) AE7(-10,-8) AE8(-9,-8) AE9(-8,-8) AE10(-7,-8) AE11(-6,-8) AE12(-5,-8) AE13(-4,-8) AE14(-3,-8) AE15(-2,-8) AE16(-1,-8) AE17(0,-8) AE18(1,-8) AE19(2,-8) AE20(3,-8) AE21(4,-8) AE22(5,-8) AE23(6,-8) AE24(7,-8) AE25(8,-8) AE26(9,-8) AE27(10,-8) AE28(11,-8) AE29(12,-8) AE30(13,-8) AE31(14,-8) AE32(15,-8) AE33(16,-8) AF1(-16,-9) AF2(-15,-9) AF3(-14,-9) AF4(-13,-9) AF5(-12,-9) AF6(-11,-9) AF7(-10,-9) AF8(-9,-9) AF9(-8,-9) AF10(-7,-9) AF11(-6,-9) AF12(-5,-9) AF13(-4,-9) AF14(-3,-9) AF15(-2,-9) AF16(-1,-9) AF17(0,-9) AF18(1,-9) AF19(2,-9) AF20(3,-9) AF21(4,-9) AF22(5,-9) AF23(6,-9) AF24(7,-9) AF25(8,-9) AF26(9,-9) AF27(10,-9) AF28(11,-9) AF29(12,-9) AF30(13,-9) AF31(14,-9) AF32(15,-9) AF33(16,-9) AG1(-16,-10) AG2(-15,-10) AG3(-14,-10) AG4(-13,-10) AG5(-12,-10) AG6(-11,-10) AG7(-10,-10) AG8(-9,-10) AG9(-8,-10) AG10(-7,-10) AG11(-6,-10) AG12(-5,-10) AG13(-4,-10) AG14(-3,-10) AG15(-2,-10) AG16(-1,-10) AG17(0,-10) AG18(1,-10) AG19(2,-10) AG20(3,-10) AG21(4,-10) AG22(5,-10) AG23(6,-10) AG24(7,-10) AG25(8,-10) AG26(9,-10) AG27(10,-10) AG28(11,-10) AG29(12,-10) AG30(13,-10) AG31(14,-10) AG32(15,-10) AG33(16,-10) AH1(-16,-11) AH2(-15,-11) AH3(-14,-11) AH4(-13,-11) AH5(-12,-11) AH6(-11,-11) AH7(-10,-11) AH8(-9,-11) AH9(-8,-11) AH10(-7,-11) AH11(-6,-11) AH12(-5,-11) AH13(-4,-11) AH14(-3,-11) AH15(-2,-11) AH16(-1,-11) AH17(0,-11) AH18(1,-11) AH19(2,-11) AH20(3,-11) AH21(4,-11) AH22(5,-11) AH23(6,-11) AH24(7,-11) AH25(8,-11) AH26(9,-11) AH27(10,-11) AH28(11,-11) AH29(12,-11) AH30(13,-11) AH31(14,-11) AH32(15,-11) AH33(16,-11) AJ1(-16,-12) AJ2(-15,-12) AJ3(-14,-12) AJ4(-13,-12) AJ5(-12,-12) AJ6(-11,-12) AJ7(-10,-12) AJ8(-9,-12) AJ9(-8,-12) AJ10(-7,-12) AJ11(-6,-12) AJ12(-5,-12) AJ13(-4,-12) AJ14(-3,-12) AJ15(-2,-12) AJ16(-1,-12) AJ17(0,-12) AJ18(1,-12) AJ19(2,-12) AJ20(3,-12) AJ21(4,-12) AJ22(5,-12) AJ23(6,-12) AJ24(7,-12) AJ25(8,-12) AJ26(9,-12) AJ27(10,-12) AJ28(11,-12) AJ29(12,-12) AJ30(13,-12) AJ31(14,-12) AJ32(15,-12) AJ33(16,-12) AK1(-16,-13) AK2(-15,-13) AK3(-14,-13) AK4(-13,-13) AK5(-12,-13) AK6(-11,-13) AK7(-10,-13) AK8(-9,-13) AK9(-8,-13) AK10(-7,-13) AK11(-6,-13) AK12(-5,-13) AK13(-4,-13) AK14(-3,-13) AK15(-2,-13) AK16(-1,-13) AK17(0,-13) AK18(1,-13) AK19(2,-13) AK20(3,-13) AK21(4,-13) AK22(5,-13) AK23(6,-13) AK24(7,-13) AK25(8,-13) AK26(9,-13) AK27(10,-13) AK28(11,-13) AK29(12,-13) AK30(13,-13) AK31(14,-13) AK32(15,-13) AK33(16,-13) AL1(-16,-14) AL2(-15,-14) AL3(-14,-14) AL4(-13,-14) AL5(-12,-14) AL6(-11,-14) AL7(-10,-14) AL8(-9,-14) AL9(-8,-14) AL10(-7,-14) AL11(-6,-14) AL12(-5,-14) AL13(-4,-14) AL14(-3,-14) AL15(-2,-14) AL16(-1,-14) AL17(0,-14) AL18(1,-14) AL19(2,-14) AL20(3,-14) AL21(4,-14) AL22(5,-14) AL23(6,-14) AL24(7,-14) AL25(8,-14) AL26(9,-14) AL27(10,-14) AL28(11,-14) AL29(12,-14) AL30(13,-14) AL31(14,-14) AL32(15,-14) AL33(16,-14) AM1(-16,-15) AM2(-15,-15) AM3(-14,-15) AM4(-13,-15) AM5(-12,-15) AM6(-11,-15) AM7(-10,-15) AM8(-9,-15) AM9(-8,-15) AM10(-7,-15) AM11(-6,-15) AM12(-5,-15) AM13(-4,-15) AM14(-3,-15) AM15(-2,-15) AM16(-1,-15) AM17(0,-15) AM18(1,-15) AM19(2,-15) AM20(3,-15) AM21(4,-15) AM22(5,-15) AM23(6,-15) AM24(7,-15) AM25(8,-15) AM26(9,-15) AM27(10,-15) AM28(11,-15) AM29(12,-15) AM30(13,-15) AM31(14,-15) AM32(15,-15) AM33(16,-15) AN1(-16,-16) AN2(-15,-16) AN3(-14,-16) AN4(-13,-16) AN5(-12,-16) AN6(-11,-16) AN7(-10,-16) AN8(-9,-16) AN9(-8,-16) AN10(-7,-16) AN11(-6,-16) AN12(-5,-16) AN13(-4,-16) AN14(-3,-16) AN15(-2,-16) AN16(-1,-16) AN17(0,-16) AN18(1,-16) AN19(2,-16) AN20(3,-16) AN21(4,-16) AN22(5,-16) AN23(6,-16) AN24(7,-16) AN25(8,-16) AN26(9,-16) AN27(10,-16) AN28(11,-16) AN29(12,-16) AN30(13,-16) AN31(14,-16) AN32(15,-16) AN33(16,-16) B1(-16,15) B2(-15,15) B3(-14,15) B4(-13,15) B5(-12,15) B6(-11,15) B7(-10,15) B8(-9,15) B9(-8,15) B10(-7,15) B11(-6,15) B12(-5,15) B13(-4,15) B14(-3,15) B15(-2,15) B16(-1,15) B17(0,15) B18(1,15) B19(2,15) B20(3,15) B21(4,15) B22(5,15) B23(6,15) B24(7,15) B25(8,15) B26(9,15) B27(10,15) B28(11,15) B29(12,15) B30(13,15) B31(14,15) B32(15,15) B33(16,15) C1(-16,14) C2(-15,14) C3(-14,14) C4(-13,14) C5(-12,14) C6(-11,14) C7(-10,14) C8(-9,14) C9(-8,14) C10(-7,14) C11(-6,14) C12(-5,14) C13(-4,14) C14(-3,14) C15(-2,14) C16(-1,14) C17(0,14) C18(1,14) C19(2,14) C20(3,14) C21(4,14) C22(5,14) C23(6,14) C24(7,14) C25(8,14) C26(9,14) C27(10,14) C28(11,14) C29(12,14) C30(13,14) C31(14,14) C32(15,14) C33(16,14) D1(-16,13) D2(-15,13) D3(-14,13) D4(-13,13) D5(-12,13) D6(-11,13) D7(-10,13) D8(-9,13) D9(-8,13) D10(-7,13) D11(-6,13) D12(-5,13) D13(-4,13) D14(-3,13) D15(-2,13) D16(-1,13) D17(0,13) D18(1,13) D19(2,13) D20(3,13) D21(4,13) D22(5,13) D23(6,13) D24(7,13) D25(8,13) D26(9,13) D27(10,13) D28(11,13) D29(12,13) D30(13,13) D31(14,13) D32(15,13) D33(16,13) E1(-16,12) E2(-15,12) E3(-14,12) E4(-13,12) E5(-12,12) E6(-11,12) E7(-10,12) E8(-9,12) E9(-8,12) E10(-7,12) E11(-6,12) E12(-5,12) E13(-4,12) E14(-3,12) E15(-2,12) E16(-1,12) E17(0,12) E18(1,12) E19(2,12) E20(3,12) E21(4,12) E22(5,12) E23(6,12) E24(7,12) E25(8,12) E26(9,12) E27(10,12) E28(11,12) E29(12,12) E30(13,12) E31(14,12) E32(15,12) E33(16,12) F1(-16,11) F2(-15,11) F3(-14,11) F4(-13,11) F5(-12,11) F6(-11,11) F7(-10,11) F8(-9,11) F9(-8,11) F10(-7,11) F11(-6,11) F12(-5,11) F13(-4,11) F14(-3,11) F15(-2,11) F16(-1,11) F17(0,11) F18(1,11) F19(2,11) F20(3,11) F21(4,11) F22(5,11) F23(6,11) F24(7,11) F25(8,11) F26(9,11) F27(10,11) F28(11,11) F29(12,11) F30(13,11) F31(14,11) F32(15,11) F33(16,11) G1(-16,10) G2(-15,10) G3(-14,10) G4(-13,10) G5(-12,10) G6(-11,10) G7(-10,10) G8(-9,10) G9(-8,10) G10(-7,10) G11(-6,10) G12(-5,10) G13(-4,10) G14(-3,10) G15(-2,10) G16(-1,10) G17(0,10) G18(1,10) G19(2,10) G20(3,10) G21(4,10) G22(5,10) G23(6,10) G24(7,10) G25(8,10) G26(9,10) G27(10,10) G28(11,10) G29(12,10) G30(13,10) G31(14,10) G32(15,10) G33(16,10) H1(-16,9) H2(-15,9) H3(-14,9) H4(-13,9) H5(-12,9) H6(-11,9) H7(-10,9) H8(-9,9) H9(-8,9) H10(-7,9) H11(-6,9) H12(-5,9) H13(-4,9) H14(-3,9) H15(-2,9) H16(-1,9) H17(0,9) H18(1,9) H19(2,9) H20(3,9) H21(4,9) H22(5,9) H23(6,9) H24(7,9) H25(8,9) H26(9,9) H27(10,9) H28(11,9) H29(12,9) H30(13,9) H31(14,9) H32(15,9) H33(16,9) J1(-16,8) J2(-15,8) J3(-14,8) J4(-13,8) J5(-12,8) J6(-11,8) J7(-10,8) J8(-9,8) J9(-8,8) J10(-7,8) J11(-6,8) J12(-5,8) J13(-4,8) J14(-3,8) J15(-2,8) J16(-1,8) J17(0,8) J18(1,8) J19(2,8) J20(3,8) J21(4,8) J22(5,8) J23(6,8) J24(7,8) J25(8,8) J26(9,8) J27(10,8) J28(11,8) J29(12,8) J30(13,8) J31(14,8) J32(15,8) J33(16,8) K1(-16,7) K2(-15,7) K3(-14,7) K4(-13,7) K5(-12,7) K6(-11,7) K7(-10,7) K8(-9,7) K9(-8,7) K10(-7,7) K11(-6,7) K12(-5,7) K13(-4,7) K14(-3,7) K15(-2,7) K16(-1,7) K17(0,7) K18(1,7) K19(2,7) K20(3,7) K21(4,7) K22(5,7) K23(6,7) K24(7,7) K25(8,7) K26(9,7) K27(10,7) K28(11,7) K29(12,7) K30(13,7) K31(14,7) K32(15,7) K33(16,7) L1(-16,6) L2(-15,6) L3(-14,6) L4(-13,6) L5(-12,6) L6(-11,6) L7(-10,6) L8(-9,6) L9(-8,6) L10(-7,6) L11(-6,6) L12(-5,6) L13(-4,6) L14(-3,6) L15(-2,6) L16(-1,6) L17(0,6) L18(1,6) L19(2,6) L20(3,6) L21(4,6) L22(5,6) L23(6,6) L24(7,6) L25(8,6) L26(9,6) L27(10,6) L28(11,6) L29(12,6) L30(13,6) L31(14,6) L32(15,6) L33(16,6) M1(-16,5) M2(-15,5) M3(-14,5) M4(-13,5) M5(-12,5) M6(-11,5) M7(-10,5) M8(-9,5) M9(-8,5) M10(-7,5) M11(-6,5) M12(-5,5) M13(-4,5) M14(-3,5) M15(-2,5) M16(-1,5) M17(0,5) M18(1,5) M19(2,5) M20(3,5) M21(4,5) M22(5,5) M23(6,5) M24(7,5) M25(8,5) M26(9,5) M27(10,5) M28(11,5) M29(12,5) M30(13,5) M31(14,5) M32(15,5) M33(16,5) N1(-16,4) N2(-15,4) N3(-14,4) N4(-13,4) N5(-12,4) N6(-11,4) N7(-10,4) N8(-9,4) N9(-8,4) N10(-7,4) N11(-6,4) N12(-5,4) N13(-4,4) N14(-3,4) N15(-2,4) N16(-1,4) N17(0,4) N18(1,4) N19(2,4) N20(3,4) N21(4,4) N22(5,4) N23(6,4) N24(7,4) N25(8,4) N26(9,4) N27(10,4) N28(11,4) N29(12,4) N30(13,4) N31(14,4) N32(15,4) N33(16,4) P1(-16,3) P2(-15,3) P3(-14,3) P4(-13,3) P5(-12,3) P6(-11,3) P7(-10,3) P8(-9,3) P9(-8,3) P10(-7,3) P11(-6,3) P12(-5,3) P13(-4,3) P14(-3,3) P15(-2,3) P16(-1,3) P17(0,3) P18(1,3) P19(2,3) P20(3,3) P21(4,3) P22(5,3) P23(6,3) P24(7,3) P25(8,3) P26(9,3) P27(10,3) P28(11,3) P29(12,3) P30(13,3) P31(14,3) P32(15,3) P33(16,3) R1(-16,2) R2(-15,2) R3(-14,2) R4(-13,2) R5(-12,2) R6(-11,2) R7(-10,2) R8(-9,2) R9(-8,2) R10(-7,2) R11(-6,2) R12(-5,2) R13(-4,2) R14(-3,2) R15(-2,2) R16(-1,2) R17(0,2) R18(1,2) R19(2,2) R20(3,2) R21(4,2) R22(5,2) R23(6,2) R24(7,2) R25(8,2) R26(9,2) R27(10,2) R28(11,2) R29(12,2) R30(13,2) R31(14,2) R32(15,2) R33(16,2) T1(-16,1) T2(-15,1) T3(-14,1) T4(-13,1) T5(-12,1) T6(-11,1) T7(-10,1) T8(-9,1) T9(-8,1) T10(-7,1) T11(-6,1) T12(-5,1) T13(-4,1) T14(-3,1) T15(-2,1) T16(-1,1) T17(0,1) T18(1,1) T19(2,1) T20(3,1) T21(4,1) T22(5,1) T23(6,1) T24(7,1) T25(8,1) T26(9,1) T27(10,1) T28(11,1) T29(12,1) T30(13,1) T31(14,1) T32(15,1) T33(16,1) U1(-16,0) U2(-15,0) U3(-14,0) U4(-13,0) U5(-12,0) U6(-11,0) U7(-10,0) U8(-9,0) U9(-8,0) U10(-7,0) U11(-6,0) U12(-5,0) U13(-4,0) U14(-3,0) U15(-2,0) U16(-1,0) U17(0,0) U18(1,0) U19(2,0) U20(3,0) U21(4,0) U22(5,0) U23(6,0) U24(7,0) U25(8,0) U26(9,0) U27(10,0) U28(11,0) U29(12,0) U30(13,0) U31(14,0) U32(15,0) U33(16,0) V1(-16,-1) V2(-15,-1) V3(-14,-1) V4(-13,-1) V5(-12,-1) V6(-11,-1) V7(-10,-1) V8(-9,-1) V9(-8,-1) V10(-7,-1) V11(-6,-1) V12(-5,-1) V13(-4,-1) V14(-3,-1) V15(-2,-1) V16(-1,-1) V17(0,-1) V18(1,-1) V19(2,-1) V20(3,-1) V21(4,-1) V22(5,-1) V23(6,-1) V24(7,-1) V25(8,-1) V26(9,-1) V27(10,-1) V28(11,-1) V29(12,-1) V30(13,-1) V31(14,-1) V32(15,-1) V33(16,-1) W1(-16,-2) W2(-15,-2) W3(-14,-2) W4(-13,-2) W5(-12,-2) W6(-11,-2) W7(-10,-2) W8(-9,-2) W9(-8,-2) W10(-7,-2) W11(-6,-2) W12(-5,-2) W13(-4,-2) W14(-3,-2) W15(-2,-2) W16(-1,-2) W17(0,-2) W18(1,-2) W19(2,-2) W20(3,-2) W21(4,-2) W22(5,-2) W23(6,-2) W24(7,-2) W25(8,-2) W26(9,-2) W27(10,-2) W28(11,-2) W29(12,-2) W30(13,-2) W31(14,-2) W32(15,-2) W33(16,-2) Y1(-16,-3) Y2(-15,-3) Y3(-14,-3) Y4(-13,-3) Y5(-12,-3) Y6(-11,-3) Y7(-10,-3) Y8(-9,-3) Y9(-8,-3) Y10(-7,-3) Y11(-6,-3) Y12(-5,-3) Y13(-4,-3) Y14(-3,-3) Y15(-2,-3) Y16(-1,-3) Y17(0,-3) Y18(1,-3) Y19(2,-3) Y20(3,-3) Y21(4,-3) Y22(5,-3) Y23(6,-3) Y24(7,-3) Y25(8,-3) Y26(9,-3) Y27(10,-3) Y28(11,-3) Y29(12,-3) Y30(13,-3) Y31(14,-3) Y32(15,-3) Y33(16,-3)
Top Overlay:
  circle w0.25: c-18.15,16 r0.125
  region: -16.5,17.5 -17.5,16.5 -17.5,17.5
  lines w0.2: -17.5,16.5 -16.5,17.5 ; -17.5,-17.5 -17.5,17.5 17.5,17.5 17.5,-17.5 -17.5,-17.5
Mechanical 13:
  lines w0.1: -17.5,-17.5 -17.5,17.5 17.5,17.5 17.5,-17.5 -17.5,-17.5
Mechanical 15:
  lines w0.1: -0.5,0 0.5,0 ; 0,-0.5 0,0.5 ; -18.5,-18.5 -18.5,18.5 18.5,18.5 18.5,-18.5 -18.5,-18.5
3D body: height 0, standoff 0, extent -17.5,-17.5 17.5,17.5